# Altium schematic symbol library GENERIC_R0TP.Schlib: 1 symbol
Pins are listed as number, name and electrical type; pins without a type are passive.

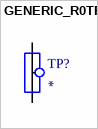
[diagram p0: symbol GENERIC_R0TP]

## GENERIC_R0TP
designator TP?
pins: 1, 2